# Altium schematic symbol library Schlib2.SchLib: 11 symbols
Pins are listed as number, name and electrical type; pins without a type are passive.

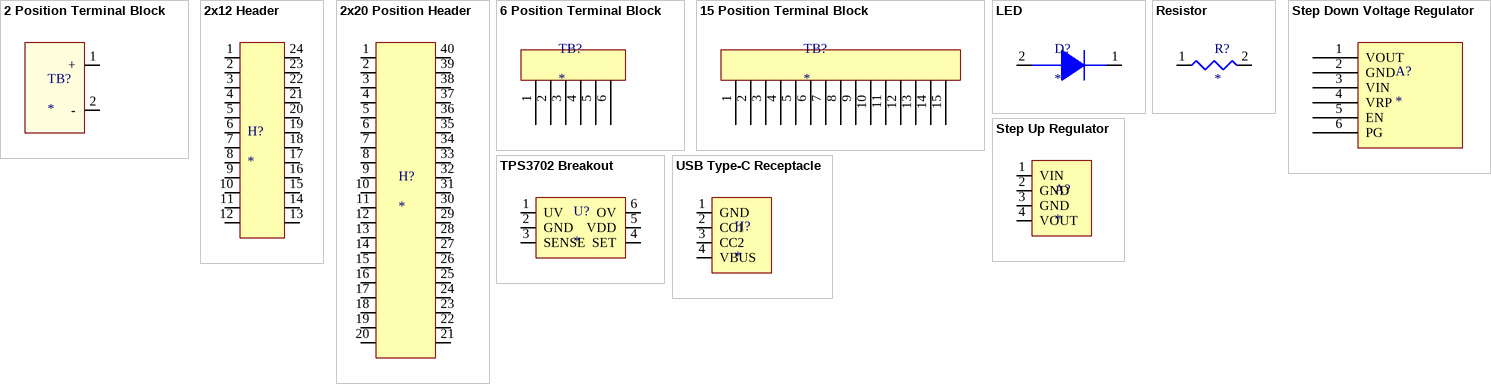
[diagram p0: symbols 2 Position Terminal Block to USB Type-C Receptacle]

## 2 Position Terminal Block
designator TB?
footprint Terminal Block
pins: 1 +, 2 -

## 2x12 Header
designator H?
footprint 2x12 HEADER
pins: 1, 2, 3, 4, 5, 6, 7, 8, 9, 10, 11, 12, 13, 14, 15, 16, 17, 18, 19, 20, 21, 22, 23, 24

## 2x20 Position Header
designator H?
footprint 2x20 Header
pins: 1, 2, 3, 4, 5, 6, 7, 8, 9, 10, 11, 12, 13, 14, 15, 16, 17, 18, 19, 20, 21, 22, 23, 24, 25, 26, 27, 28, 29, 30, 31, 32, 33, 34, 35, 36, 37, 38, 39, 40

## 6 Position Terminal Block
designator TB?
footprint NEW 6 Terminal
pins: 1, 2, 3, 4, 5, 6

## 15 Position Terminal Block
designator TB?
footprint NEW 15 terminal
footprint NEW 15 terminal
pins: 1, 2, 3, 4, 5, 6, 7, 8, 9, 10, 11, 12, 13, 14, 15

## LED
designator D?
footprint LED
pins: 1 Anode, 2 Cath

## Resistor
designator R?
footprint Resistor
pins: 1, 2

## Step Down Voltage Regulator
designator A?
footprint New Volt Reg TEMPLATE
pins: 1 VOUT, 2 GND, 3 VIN, 4 VRP, 5 EN, 6 PG

## Step Up Regulator
designator A?
footprint 24V STEP UP REGULATOR
pins: 1 VIN, 2 GND, 3 GND, 4 VOUT

## TPS3702 Breakout
designator U?
footprint TPS3702 Breakout
pins: 1 UV, 2 GND, 3 SENSE, 4 SET, 5 VDD, 6 OV

## USB Type-C Receptacle
designator H?
footprint USB Type-C Receptacle
pins: 1 GND, 2 CC1, 3 CC2, 4 VBUS